# Altium integrated library Netscale72_Panelcontroller.IntLib: 56 symbols
Pins are listed as number, name and electrical type; pins without a type are passive.

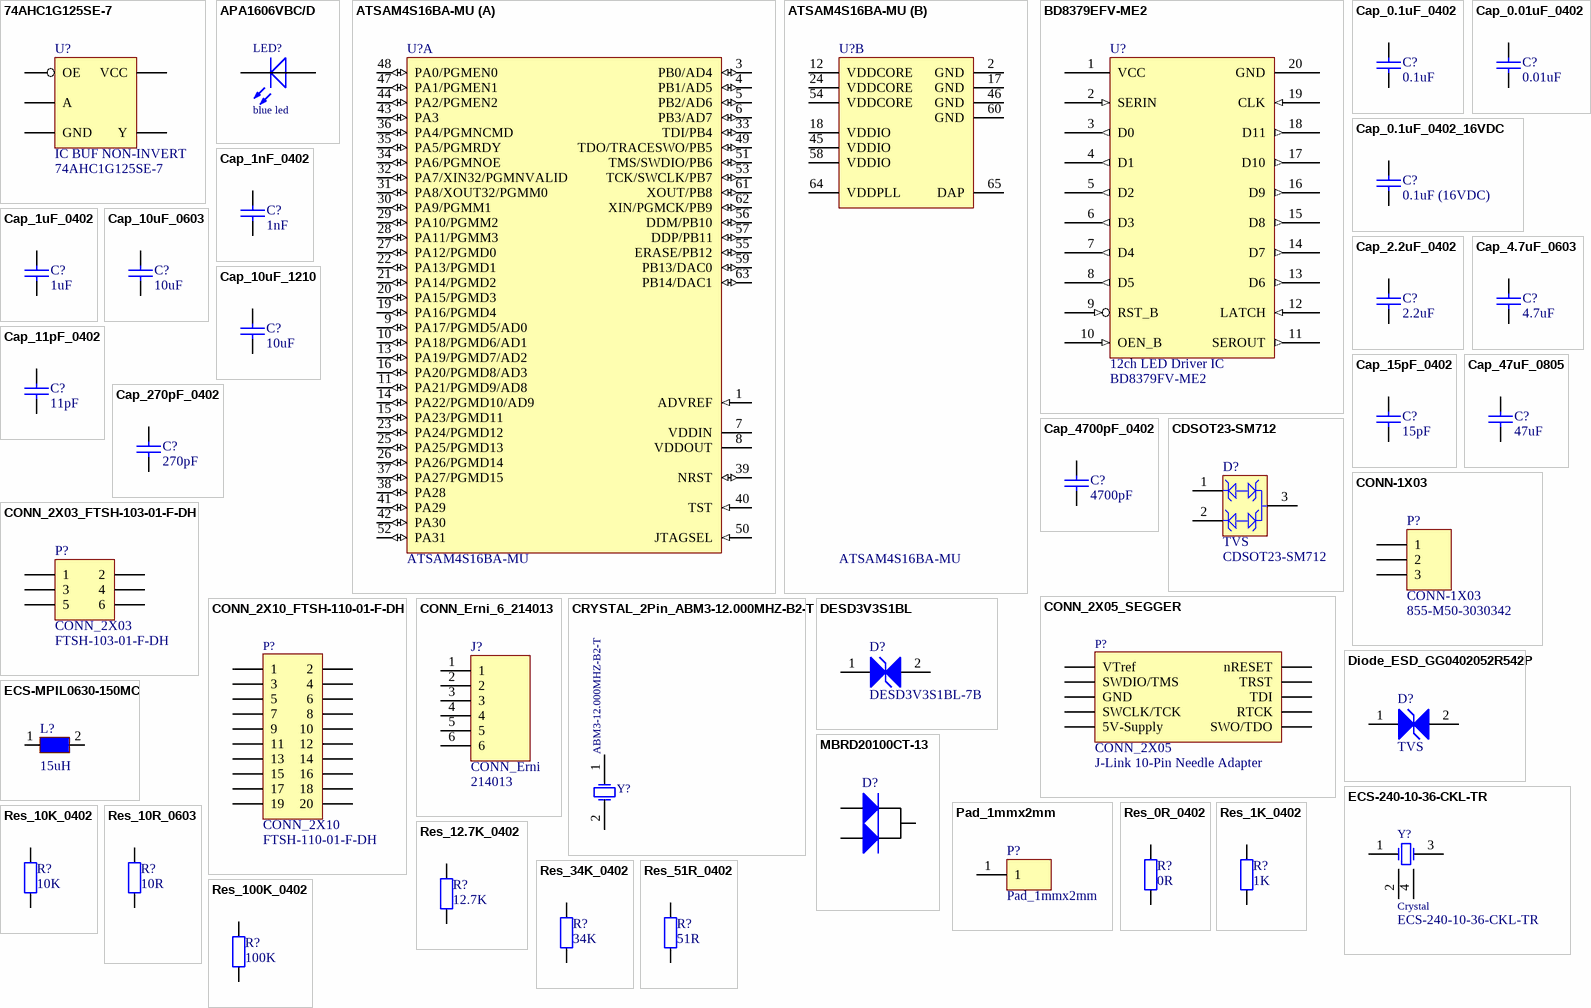
[diagram p0: symbols 74AHC1G125SE-7 to Res_100K_0402]

## 74AHC1G125SE-7
designator U?, comment IC BUF NON-INVERT  Manufacturer PartNr: 74AHC1G125SE-7
Buffer, Non-Inverting 1 Element 1 Bit per Element 3-State Output SOT-353; Manufacturer: Diodes Incorporated; Replaceable: no; Footprint/Package: SOT353; ComponentLink1Description: mouser; ComponentLink1URL: https://www.mouser.ch/ProductDetail/Samtec/BBL-103-G-E?qs=sGAEpiMZZMs%252bGHln7q6pm5ZHNJhTjtr3eyJKd0ZImQM%3d; Supplier 2: Mouser; Supplier 1: Digi-Key; Supplier 3: Farnell; Supplier Part Number 1: SAM1104-03-ND; Supplier Part Number 2: 200-SL103G12; Supplier Part Number 3: 2019491
footprint SOT353
pins: 1 OE, 2 A, 3 GND, 4 Y, 5 VCC

## APA1606VBC/D
designator LED?, comment blue led
blue, 1.6 x 0.6 mm Right Angle SMD Chip LED Lamp; Manufacturer: Kingbright; Manufacturer PartNr: APA1606VBC/D; Replaceable: yes; ComponentLink1Description: mouser; ComponentLink1URL: https://www.mouser.ch/ProductDetail/Kingbright/APA1606VBC-D?qs=%2fha2pyFaduhFkLoQLKawdk3E%252bl3FgSOr3Fif4NOc1lJmKkWDM5WlaQ%3d%3d; Footprint/Package: specific, see datasheet; Supplier 1: Digi-Key; Supplier Part Number 1: 754-2090-6-ND
footprint Kingbright_SMD_2_RWH
pins: 1 K, 2 A

## ATSAM4S16BA-MU
designator U?
AT91 ARM Cortex-M4 32-bit Microcontroller, 1MB Flash, 128KB SRAM, USB, 79 User I/Os, 64-Pin QFN, Industrial Grade (-40°C to 105°C), Pb-Free; Manufacturer: Atmel; Replaceable: no; DatasheetVersion: revA, Oct-2011; PackageVersion: revJ, Jul-2007; PackageReference: 64PS; PackageDescription: 64-Pin Quad Flat No-Lead (QFN) Sawn, 9 x 9 x 1.0 mm Body, 0.5 mm Pitch, Exposed Pad; Code_JEDEC: MO-220VMMD-3; ComponentLink1Description: Manufacturer URL; ComponentLink1URL: http://www.atmel.com/; ComponentLink2Description: SAM4S Series Datasheet; ComponentLink2URL: http://www.atmel.com/dyn/resources/prod_documents/11100.pdf; ComponentLink3Description: SAM4S Series Summary; ComponentLink3URL: http://www.atmel.com/dyn/resources/prod_documents/11100S.pdf; Manufacturer PartNr: ATSAM4S16BA-MU; Footprint/Package: QFN, 64-Leads, Body 9x9mm, Pitch 0.5mm, Thermal Pad 7.5x7.5mm, IPC Medium Density
footprint 64PS_N (QFN, 64-Leads, Body 9x9mm, Pitch 0.5mm, Thermal Pad 7.5x7.5mm, IPC Medium Density)
footprint 64PS_L (QFN, 64-Leads, Body 9x9mm, Pitch 0.5mm, Thermal Pad 7.5x7.5mm, IPC High Density)
footprint 64PS_M (QFN, 64-Leads, Body 9x9mm, Pitch 0.5mm, Thermal Pad 7.5x7.5mm, IPC Low Density)
part A pins: 1 ADVREF (in), 3 PB0/AD4 (io), 4 PB1/AD5 (io), 5 PB2/AD6 (io), 6 PB3/AD7 (io), 7 VDDIN (power), 8 VDDOUT (power), 9 PA17/PGMD5/AD0 (io), 10 PA18/PGMD6/AD1 (io), 11 PA21/PGMD9/AD8 (io), 13 PA19/PGMD7/AD2 (io), 14 PA22/PGMD10/AD9 (io), 15 PA23/PGMD11 (io), 16 PA20/PGMD8/AD3 (io), 19 PA16/PGMD4 (io), 20 PA15/PGMD3 (io), 21 PA14/PGMD2 (io), 22 PA13/PGMD1 (io), 23 PA24/PGMD12 (io), 25 PA25/PGMD13 (io), 26 PA26/PGMD14 (io), 27 PA12/PGMD0 (io), 28 PA11/PGMM3 (io), 29 PA10/PGMM2 (io), 30 PA9/PGMM1 (io), 31 PA8/XOUT32/PGMM0 (io), 32 PA7/XIN32/PGMNVALID (io), 33 TDI/PB4 (io), 34 PA6/PGMNOE (io), 35 PA5/PGMRDY (io), 36 PA4/PGMNCMD (io), 37 PA27/PGMD15 (io), 38 PA28 (io), 39 NRST (io), 40 TST (in), 41 PA29 (io), 42 PA30 (io), 43 PA3 (io), 44 PA2/PGMEN2 (io), 47 PA1/PGMEN1 (io), 48 PA0/PGMEN0 (io), 49 TDO/TRACESWO/PB5 (io), 50 JTAGSEL (in), 51 TMS/SWDIO/PB6 (io), 52 PA31 (io), 53 TCK/SWCLK/PB7 (io), 55 ERASE/PB12 (io), 56 DDM/PB10 (io), 57 DDP/PB11 (io), 59 PB13/DAC0 (io), 61 XOUT/PB8 (io), 62 XIN/PGMCK/PB9 (io), 63 PB14/DAC1 (io)
part B pins: 2 GND (power), 12 VDDCORE (power), 17 GND (power), 18 VDDIO (power), 24 VDDCORE (power), 45 VDDIO (power), 46 GND (power), 54 VDDCORE (power), 58 VDDIO (power), 60 GND (power), 64 VDDPLL (power), 65 DAP (power)

## BD8379EFV-ME2
designator U?, comment 12ch LED Driver IC  Manufacturer PartNr: BD8379FV-ME2
LED Lighting Drivers 12ch LED Drvr IC 3-5.5V; HTSSOP-B20; Manufacturer: ROHM Semiconductor; Replaceable: no; ComponentLink1Description: mouser; ComponentLink1URL: https://www.mouser.ch/ProductDetail/ROHM-Semiconductor/BD8379FV-ME2?qs=sGAEpiMZZMsE420DPIasPr3Oyx8hJUvEOZy8Z%252b2LZIkkhTSvSLIdLA%3d%3d; Footprint/Package: SSOP-B-20; Supplier 1: Mouser; Supplier 2: Farnell; Supplier 3: Digi-Key; Supplier Part Number 1: 755-BD8379FV-ME2; Supplier Part Number 2: 2888227; Supplier Part Number 3: BD8379FV-ME2DKR-ND
footprint BD8379EFV-ME2_HTSSOP-B20 (TSOP, 20-Leads, Body 6.40x4.40mm, Pitch 0.65mm, IPC Medium Density)
pins: 1 VCC (power), 2 SERIN (in), 3 D0 (out), 4 D1 (out), 5 D2 (out), 6 D3 (out), 7 D4 (out), 8 D5 (out), 9 RST_B (in), 10 OEN_B (in), 11 SEROUT (out), 12 LATCH (in), 13 D6 (out), 14 D7 (out), 15 D8 (out), 16 D9 (out), 17 D10 (out), 18 D11 (out), 19 CLK (in), 20 GND

## Cap_0.1uF_0402
designator C?, comment 0.1uF
SMD/SMT WCAP-CSGP 0.1uF 0402 20% 10V MLCC; Manufacturer: Wurth Electronics; Manufacturer PartNr: 885012105010; voltage: 10VDC; Dielectric Grade: X5R; Replaceable: yes; tolerance: 20%; value: 0.1uF; ComponentLink1Description: mouser; ComponentLink1URL: https://www.mouser.ch/ProductDetail/Wurth-Electronics/885012105010?qs=sGAEpiMZZMs0AnBnWHyRQEGbLOF2VP1ihL84oCjXnlO407YOHi%2fQbw%3d%3d; Footprint/Package: 0402; Supplier 1: Mouser; Supplier 2: Farnell; Supplier 3: Digi-Key; Supplier Part Number 1: 710-885012105010; Supplier Part Number 2: 2533928; Supplier Part Number 3: 732-7487-1-ND
footprint Ceramic Capacitor 0402 EIA
pins: 1, 2

## Cap_0.01uF_0402
designator C?, comment 0.01uF
SMD/SMT WCAP-CSGP 0.01uF 0402 10% 10V MLCC; Manufacturer: Wurth Electronics; Manufacturer PartNr: 885012205012; voltage: 10VDC; Dielectric Grade: X7R; Replaceable: yes; value: 0.01uF; tolerance: 10%; ComponentLink1Description: mouser; ComponentLink1URL: https://www.mouser.ch/ProductDetail/Wurth-Electronics/885012205012?qs=%2fha2pyFadugw7Bx5e6Fm8E9Tl5BwARhs%2fZgZBwU9Lt9i4SI58FWkO%2fGWTrc%2fVjVaOTikVrFA6u%2fDYyVQwAJERsgVVqUKkSXa; Footprint/Package: 0402; Supplier 1: Mouser; Supplier 2: Farnell; Supplier 3: Digi-Key; Supplier Part Number 1: 710-885012205012; Supplier Part Number 2: 2533974; Supplier Part Number 3: 732-7507-1-ND
footprint Ceramic Capacitor 0402 EIA
pins: 1, 2

## Cap_0.1uF_0402_16VDC
designator C?, comment 0.1uF (16VDC)
SMD/SMT 16volts .1uF 20% X7R; Manufacturer: KEMET; Manufacturer PartNr: C0402C104M4RACAUTO; Replaceable: yes; value: 0.1uF (16VDC); tolerance: 20%; voltage: 16VDC; ComponentLink1Description: mouser; ComponentLink1URL: https://www.mouser.ch/ProductDetail/KEMET/C0402C104M4RACAUTO?qs=sGAEpiMZZMs0AnBnWHyRQB295tntAovf0Dzw3tVX6zRfKTwHFThmZw%3d%3d; Dielectric Grade: X7R; Footprint/Package: 0402; Supplier 1: Mouser; Supplier 2: Digi-Key; Supplier 3: Farnell; Supplier Part Number 1: 80-C0402C104M4RAUTO; Supplier Part Number 2: 399-13707-6-ND; Supplier Part Number 3: 2773075
footprint Ceramic Capacitor 0402 EIA
pins: 1, 2

## Cap_1nF_0402
designator C?, comment 1nF
1000pF ±20% 50V Ceramic Capacitor X5R 0402 (1005 Metric); Manufacturer: TDK Corporation; Manufacturer PartNr: C1005X5R1H102M050BA; Replaceable: yes; value: 1nF; tolerance: ±20%; voltage: 50V; Dielectric Grade: X5R; Footprint/Package: 0402; ComponentLink1Description: digikey; ComponentLink1URL: https://www.digikey.com/product-detail/en/tdk-corporation/C1005X5R1H102M050BA/445-13843-6-ND/3959939
footprint Ceramic Capacitor 0402 EIA
pins: 1, 2

## Cap_1uF_0402
designator C?, comment 1uF
SMD/SMT 0402 1uF 10volts X7S 10%; Manufacturer: Murata; Manufacturer PartNr: GCM155C71A105KE38D; voltage: 10VDC; Replaceable: yes; value: 1uF; tolerance: 10%; ComponentLink1Description: mouser; ComponentLink1URL: https://www.mouser.ch/ProductDetail/Murata-Electronics/GCM155C71A105KE38D?qs=sGAEpiMZZMsh%252b1woXyUXj0FEAttKcN54ouz5zO04smg%3d; Dielectric Grade: X7S; Footprint/Package: 0402; Supplier 1: Mouser; Supplier 2: Digi-Key; Supplier Part Number 1: 81-GCM155C71A105KE8D; Supplier Part Number 2: 490-13409-6-ND
footprint Ceramic Capacitor 0402 EIA
pins: 1, 2

## Cap_2.2uF_0402
designator C?, comment 2.2uF
2.2µF ±20% 25V Ceramic Capacitor X5R 0402 (1005 Metric); Manufacturer: Murata; Manufacturer PartNr: GRM155R61E225ME15D; Replaceable: yes; value: 2.2uF; tolerance: ±20%; voltage: 25V; Dielectric Grade: X5R; Footprint/Package: 0402; ComponentLink1Description: digikey; ComponentLink1URL: https://www.digikey.com/product-detail/en/murata-electronics-north-america/GRM155R61E225ME15D/490-10457-2-ND/5027542
footprint Ceramic Capacitor 0402 EIA
pins: 1, 2

## Cap_4.7uF_0603
designator C?, comment 4.7uF
SMD/SMT 0603 4.7uF 10volts; Manufracturer: Murata; Manufacturer PartNr: GRM188R61A475KE15D; tolerance: 20%; voltage: 10VDC; Dielectric Grade: X5R; Replaceable: yes; value: 4.7uF; Footprint/Package: 0603
footprint Ceramic Capacitor 0603 EIA
pins: 1, 2

## Cap_10uF_0603
designator C?, comment 10uF
SMD/SMT 0603 10uF 10volts; Manufacturer: Murata; Manufacturer PartNr: GRM188D71A106MA73D; tolerance: 20%; voltage: 10VDC; Replaceable: yes; Dielectric Grade: X5R; value: 10uF; Footprint/Package: 0603
footprint Ceramic Capacitor 0603 EIA
pins: 1, 2

## Cap_10uF_1210
designator C?, comment 10uF
SMD/SMT 100Vdc 10uF 10% 1210/2502; Manufacturer: Murata; Manufacturer PartNr: GRM32EC72A106KE05L; Dielectric Grade: X7S; Replaceable: yes; value: 10uF; tolerance: 10%; voltage: 100VDC; ComponentLink1Description: mouser; ComponentLink1URL: https://www.mouser.ch/ProductDetail/Murata-Electronics/GRM32EC72A106KE05L?qs=sGAEpiMZZMs0AnBnWHyRQN7%2fAA2D2lPPRgsNRWcxCxSMn45aJ02Wig%3d%3d; Footprint/Package: 1210; Supplier 1: Mouser; Supplier 2: Digi-Key; Supplier Part Number 1: 81-GRM32EC72A106KE05; Supplier Part Number 2: 490-16266-6-ND
footprint Ceramic Capacitor 1210 EIA
pins: 1, 2

## Cap_11pF_0402
designator C?, comment 11pF
SMD/SMT 0402 11pF 50volts C0G 5%; Manufacturer: Murata; Manufacturer PartNr: GRM1555C1H110JA01D; voltage: 50VDC; Dielectric Grade: C0G (NP0); Replaceable: yes; value: 11pF; tolerance: 5%; ComponentLink1Description: mouser; ComponentLink1URL: https://www.mouser.ch/ProductDetail/Murata-Electronics/GRM1555C1H110JA01D?qs=%2fha2pyFadug34NHqLs7eMMmZ4IY%2fB%2fBwtGmZmE%252bqlNJIuNiWKDU4cio3ILTIjZ7Z; Footprint/Package: 0402; Supplier 1: Mouser; Supplier 2: Digi-Key; Supplier 3: Farnell; Supplier Part Number 1: 81-GRM1555C1H110JA1D; Supplier Part Number 2: 490-5923-6-ND; Supplier Part Number 3: 2218837
footprint Ceramic Capacitor 0402 EIA
pins: 1, 2

## Cap_15pF_0402
designator C?, comment 15pF
Multilayer Ceramic Capacitors MLCC; Manufacturer: Muarata; Manufacturer PartNr: GJM1555C1H150FB01D; tolerance: ±1%; voltage: 50V; Replaceable: no; Dielectric Grade: NP0; value: 15pF; Footprint/Package: 0402; ComponentLink1Description: digikey; ComponentLink1URL: https://www.digikey.com/product-detail/en/murata-electronics-north-america/GJM1555C1H150FB01D/490-11191-6-ND/5333833
footprint Ceramic Capacitor 0402 EIA
pins: 1, 2

## Cap_47uF_0805
designator C?, comment 47uF
SMD/SMT 0805 47uF 10volts; Manufacturer: Murata; Manufacturer PartNr: GRM21BR61A476ME15K; tolerance: 20%; voltage: 10VDC; Dielectric Grade: X5R; Replaceable: yes; value: 47uF; ComponentLink1Description: mouser; ComponentLink1URL: https://www.mouser.ch/ProductDetail/Murata-Electronics/GRM21BR61A476ME15K?qs=sGAEpiMZZMs0AnBnWHyRQFv7x1xn%252bYFd%2fKEbtsqpw9LjjzI%2fE2JjPg%3d%3d; Footprint/Package: 0805; Supplier 1: Mouser; Supplier 2: Digi-Key; Supplier Part Number 1: 81-GRM21BR61A476ME5K; Supplier Part Number 2: GRM21BR61A476ME15K-ND
footprint Ceramic Capacitor 0805 EIA
pins: 1, 2

## Cap_270pF_0402
designator C?, comment 270pF
SMD/SMT 0402 270pF 10volts X7R 20%; Manufacturer: Vishay / Vitramon; Manufacturer PartNr: VJ0402Y271MXQPW1BC; voltage: 10VDC; Replaceable: yes; value: 270pF; tolerance: 20%; ComponentLink1Description: mouser; ComponentLink1URL: https://www.mouser.ch/ProductDetail/Vishay-Vitramon/VJ0402Y271MXQPW1BC?qs=sGAEpiMZZMs0AnBnWHyRQGuekufMepD5hIxY33Q3750%3d; Dielectric Grade: X7R; Footprint/Package: 0402; Supplier 1: Mouser; Supplier 2: Digi-Key; Supplier Part Number 1: 77-VJ0402Y271MXQPBC; Supplier Part Number 2: VJ0402Y271MXQPW1BC-ND
footprint Ceramic Capacitor 0402 EIA
pins: 1, 2

## Cap_4700pF_0402
designator C?, comment 4700pF
SMD/SMT 0.0047uF 10volts 10%; Manufacturer: Murata; Manufacturer PartNr: GRM155R61A472KA01D; voltage: 10VDC; Dielectric Grade: X5R; Replaceable: yes; value: 4700pF; tolerance: 10%; ComponentLink1Description: mouser; ComponentLink1URL: https://www.mouser.ch/ProductDetail/Murata-Electronics/GRM155R61A472KA01D?qs=sGAEpiMZZMs0AnBnWHyRQJuLogdu9bcTuSYPL0o17LI%3d; Footprint/Package: 0402; Supplier 1: Mouser; Supplier 2: Digi-Key; Supplier Part Number 1: 81-GRM155R61A472KA1D; Supplier Part Number 2: 490-8254-6-ND
footprint Ceramic Capacitor 0402 EIA
pins: 1, 2

## CDSOT23-SM712
designator D?, comment TVS  Manufacturer PartNr: CDSOT23-SM712
ESD Suppressors / TVS Diodes SOT-23 7V400W Low Capacitance; Manufacturer: Bourns; Replaceable: no; ComponentLink1Description: mouser; ComponentLink1URL: https://www.mouser.ch/ProductDetail/Bourns/CDSOT23-SM712?qs=sGAEpiMZZMviKXukECHWvZSlzh2FqLKC; Footprint/Package: SOT-23; Supplier 1: Mouser; Supplier 2: Digi-Key; Supplier 3: Farnell; Supplier Part Number 1: 652-CDSOT23-SM712; Supplier Part Number 2: CDSOT23-SM712DKR-ND; Supplier Part Number 3: 1824869
footprint BOUR-SOT23-3_V (SOT23, 3-Leads, Body 2.9x1.3mm, Pitch 0.95mm)
pins: 1, 2, 3

## CONN-1X03
designator P?  Supplier Part Number 1: 855-M50-3030342
Headers & Wire Housings 3 WAY SIL VERT PC TAIL SKT; Manufacturer: Archer; Manufacturer PartNr: M50-3030342; Replaceable: no; System: Connector; Footprint/Package: 1.27 mm; ComponentLink1Description: mouser; ComponentLink1URL: https://www.mouser.ch/ProductDetail/Samtec/BBL-103-G-E?qs=sGAEpiMZZMs%252bGHln7q6pm5ZHNJhTjtr3eyJKd0ZImQM%3d; Supplier 1: Mouser
footprint CONN_1X03 (Connector; Header; 3 Position)
pins: 1, 2, 3

## CONN_2X03_FTSH-103-01-F-DH
designator P?, comment CONN_2X03  Manufacturer PartNr: FTSH-103-01-F-DH
6Pin, 2Rows, MICRO LOW-PROFILE TERMINAL STRIPS; Manufacturer: Samtec; Replaceable: no; Footprint/Package: 1.27 mm
footprint FTSH-103-01-F-DH
pins: 1, 2, 3, 4, 5, 6

## CONN_2X05_SEGGER
designator P?, comment CONN_2X05  (no BOM)
J-Link 10-Pin Needle Adapter; Manufacturer: Samtec; Replaceable: no; Footprint/Package: 1.27 mm; Manufacturer PartNr: J-Link 10-Pin Needle Adapter
footprint CONN_2X05_SEGGER
pins: 1 VTref, 2 SWDIO/TMS, 3 GND, 4 SWCLK/TCK, 5 5V-Supply, 6 SWO/TDO, 7 RTCK, 8 TDI, 9 TRST, 10 nRESET

## CONN_2X10_FTSH-110-01-F-DH
designator P?, comment CONN_2X10  Manufacturer PartNr: FTSH-110-01-F-DH
20Pin, 2Rows, side/horizontally, MICRO LOW-PROFILE TERMINAL STRIPS; Manufacturer: Samtec; Replaceable: no; ComponentLink1Description: mouser; ComponentLink1URL: https://www.mouser.ch/ProductDetail/Samtec/FTSH-110-02-F-DH?qs=sGAEpiMZZMs%252bGHln7q6pm8Vn94ktop%2fJX5D4YaS%252bHqWex9Ov5NBeXw%3d%3d; Footprint/Package: 1.27 mm; Supplier 1: Digi-Key; Supplier 2: Farnell; Supplier 3: Mouser; Supplier Part Number 1: SAM11236-ND; Supplier Part Number 2: 2856415; Supplier Part Number 3: 200-FTS11002FDV
footprint FTSH-110-01-F-DH
pins: 1, 2, 3, 4, 5, 6, 7, 8, 9, 10, 11, 12, 13, 14, 15, 16, 17, 18, 19, 20

## CONN_Erni_6_214013
designator J?, comment CONN_Erni  Manufacturer PartNr: 214013
Headers & Wire Housings 6P 1.27MM SNGL ROW R/A MALE BLK; Manufacturer: ERNI; Replaceable: no; ComponentLink1Description: mouser; ComponentLink1URL: https://www.mouser.ch/ProductDetail/ERNI/214013?qs=sGAEpiMZZMvMXbh32ZmHAMhEPQG9jaj7Ou3J%2fuOb4IQ%3d; Footprint/Package: 1.27mm; Supplier 1: Mouser; Supplier Part Number 1: 305-214013
footprint ERNI_214013_6_R
footprint ERNI_214013 Randmontage_6_R
pins: 1, 2, 3, 4, 5, 6

## CRYSTAL_2Pin_ABM3-12.000MHZ-B2-T
designator Y?, comment ABM3-12.000MHZ-B2-T
12MHz ±20ppm Crystal 18pF 60 Ohms 2-SMD, No Lead; Manufacturer: Abracon LLC; Replaceable: no; Manufacturer PartNr: ABM3-12.000MHZ-B2-T; ShortDescription: 12MHz; Footprint/Package: 2-SMD; ComponentLink1Description: digikey; ComponentLink1URL: https://www.digikey.com/product-detail/en/abracon-llc/ABM3-12.000MHZ-B2-T/535-9100-2-ND/675295
footprint ABM3-12.000MHZ-B2-T
pins: 1 OSC1, 2 OSC2

## DESD3V3S1BL
designator D?, comment Manufacturer PartNr: DESD3V3S1BL-7B  (hidden comment: TVS)
ESD Suppressors / TVS Diodes Low Cap Bi TVS 10pF 3.3V 3.8Vbr 25kV; Manufacturer: Diodes Incorporated; Replaceable: no; ComponentLink1Description: mouser; ComponentLink1URL: https://www.mouser.ch/ProductDetail/Diodes-Incorporated/DESD3V3S1BL-7B?qs=%2fha2pyFaduhA707awRoRgtNXj1BWecNQPXz8CtVYm9O48rqwfwJI0g%3d%3d; Footprint/Package: DFN1006-2; Supplier 1: Mouser; Supplier 2: Digi-Key; Supplier Part Number 1: 621-DESD3V3S1BL-7B; Supplier Part Number 2: DESD3V3S1BL-7BDIDKR-ND
footprint DFN1006-2 (DFN, 2-Leads, Body 0.57x1.00mm, Pitch 0.65mm, IPC Medium Density)
pins: 1 A, 2 K

## Diode_ESD_GG0402052R542P
designator D?, comment TVS
ESD-Entstörer/TVS-Dioden SMP Diode 0402, 5vdc 2.5 pf,<12v clamp@1a; Manufacturer: AVX; Manufacturer PartNr: GG0402052R542P; Replaceable: no; Footprint/Package: 0402; ComponentLink1Description: mouser; ComponentLink1URL: https://www.mouser.ch/ProductDetail/AVX/GG0402052R542P?qs=sGAEpiMZZMvxHShE6Whpu1x5J54b1MLge%252BpTILpWUo8%3D
footprint Resistor 0402 EIA
pins: 1 A, 2 K

## ECS-240-10-36-CKL-TR
designator Y?, comment Crystal  Manufacturer Part Number: ECS-240-10-36-CKL-TR
Quarze 24MHz 10pF 10ppm -10C +70C
footprint ECS_ECX-2236_4_R
pins: 1 OSC1, 2 OSC2, 3 OSC2, 4 OSC3

## ECS-MPIL0630-150MC
designator L?, comment 15uH
Fixed Inductors 15uH +/-20% 3A Iron Core Shielded, R=95 mOhms, Height = 3 mm.; Manufacturer: ECS; Manufacturer PartNr: ECS-MPIL0630-150MC; Replaceable: yes; ComponentLink1Description: mouser; ComponentLink1URL: https://www.mouser.ch/ProductDetail/ECS/ECS-MPIL0630-150MC?qs=sGAEpiMZZMsg%252by3WlYCkUy0Se8nYOmwuVn58KWjVF3E%3d; value: 15uH; Footprint/Package: specific, see datasheet; Supplier 1: Mouser; Supplier Part Number 1: 520-MPIL0630-150MC; Current: 3A
footprint ECS-MPIL0630-150MC (Fixed Inductors 15uH +/-20% 5A Iron Core Shielded)
pins: 1, 2

## MBRD20100CT-13
designator D?, comment Schottky Diode  (value not drawn)
SCHOTTKY BARRIER RECTIFIERS / 3.0 AMPERES, 20 V; Manufacturer: Diodes Incorporated; Manufacturer PartNr: MBRD20100CT-13; Replaceable: no; ComponentLink1Description: mouser; ComponentLink1URL: https://www.mouser.ch/ProductDetail/ON-Semiconductor/MBRD320G?qs=sGAEpiMZZMutXGli8Ay4kLbK7y3VH6Gt26Y1IWCqWOY%3D; Footprint/Package: DPAK
footprint TO-252-3_MBRD20100CT
pins: 1, 2, 3

## Pad_1mmx2mm
designator P?  (no BOM)
Manufacturer: Pad_1mmx2mm; Manufacturer PartNr: Pad_1mmx2mm
footprint Pad_1mmx2mm (Footprint not found)
pins: 1

## Res_0R_0402
designator R?, comment 0R
0 Ohms Resistor 0402; Manufacturer: Panasonic Electronic Components; Manufacturer PartNr: ERJ-2GE0R00X; power: 100mW; Replaceable: yes; value: 0R; tolerance: -; Footprint/Package: 0402
footprint Resistor 0402 EIA
pins: 1, 2

## Res_1K_0402
designator R?, comment 1K
1 kOhm Resistor 0402; Manufacturer: TE Connectivity / Holsworthy; Manufacturer PartNr: CRGCQ0402F1K0; power: 63mW; Replaceable: yes; value: 1K; tolerance: -; Footprint/Package: 0402
footprint Resistor 0402 EIA
pins: 1, 2

## Res_10K_0402
designator R?, comment 10K
SMD 10K ohm 1% 50V General Purpose; Manufacturer: Yageo; Manufacturer PartNr: RC0402FR-1010KL; power: 63mW; Replaceable: yes; value: 10K; tolerance: 1%; ComponentLink1Description: mouser; ComponentLink1URL: https://www.mouser.ch/ProductDetail/Yageo/RC0402FR-1010KL?qs=sGAEpiMZZMtlubZbdhIBIEgN9MQql2m6Sb2LnYlCICU%3d; Footprint/Package: 0402; Supplier 1: Mouser; Supplier Part Number 1: 603-RC0402FR-1010KL
footprint Resistor 0402 EIA
pins: 1, 2

## Res_10R_0603
designator R?, comment 10R
SMD 0603 10ohms 1%; Manufacturer: Vishay; Manufacturer PartNr: CRCW060310R0FKEAHP; power: 250mW; Replaceable: yes; value: 10R; tolerance: 1%; Footprint/Package: 0603
footprint Resistor 0603 EIA
pins: 1, 2

## Res_12.7K_0402
designator R?, comment 12.7K
SMD 0402 1% 12.7Kohm; Manufacturer: Panasonic; Manufacturer PartNr: ERJ-U02F1272X; power: 100mW; Replaceable: yes; value: 12.7K; tolerance: 1%; ComponentLink1Description: mouser; ComponentLink1URL: https://www.mouser.ch/ProductDetail/Panasonic/ERJ-U02F1272X?qs=%2fha2pyFaduhgKgPBJ740pAaHj6cp9pylmg%252bQEADUfgyeSrh3sAf%2fUfkIS9lAH%252bGtn6lc%2fnTP02L%252baHn1ibPfBw%3d%3d; Footprint/Package: 0402; Supplier 1: Mouser; Supplier Part Number 1: 667-ERJ-U02F1272X
footprint Resistor 0402 EIA
pins: 1, 2

## Res_34K_0402
designator R?, comment 34K
SMD 0402 34Kohms 1%; Manufacturer: Panasonic; Manufacturer PartNr: ERJ-S02F3402X; power: 100mW; Replaceable: yes; value: 34K; tolerance: 1%; ComponentLink1Description: mouser; ComponentLink1URL: https://www.mouser.ch/ProductDetail/Panasonic/ERJ-S02F3402X?qs=sGAEpiMZZMtlubZbdhIBINuoixIUl6fxKD%252btaKOXBLI%3d; Footprint/Package: 0402; Supplier 1: Digi-Key; Supplier 2: Mouser; Supplier Part Number 1: ERJ-S02F3402X-ND; Supplier Part Number 2: 667-ERJ-S02F3402X
footprint Resistor 0402 EIA
pins: 1, 2

## Res_51R_0402
designator R?, comment 51R
Resistor; Manufacturer: Yageo; Manufacturer PartNr: RC0402JR-0751RL; tolerance: 5%; power: 62.5mW; Replaceable: yes; value: 51R; Footprint/Package: 0402; ComponentLink1Description: mouser; ComponentLink1URL: https://www.mouser.ch/ProductDetail/Yageo/RC0402JR-0751RL?qs=sGAEpiMZZMtG0KNrPCHnjTtiZEI2zSDg2UFCMmEjZXQ%3d
footprint Resistor 0402 EIA
pins: 1, 2

## Res_100K_0402
designator R?, comment 100K
100 kOhm Resistor 0402; Manufacturer: Vishay; Manufacturer PartNr: CRCW0402100KJNEDC; power: 63mW; Replaceable: yes; value: 100K; tolerance: -; Footprint/Package: 0402
footprint Resistor 0402 EIA
pins: 1, 2

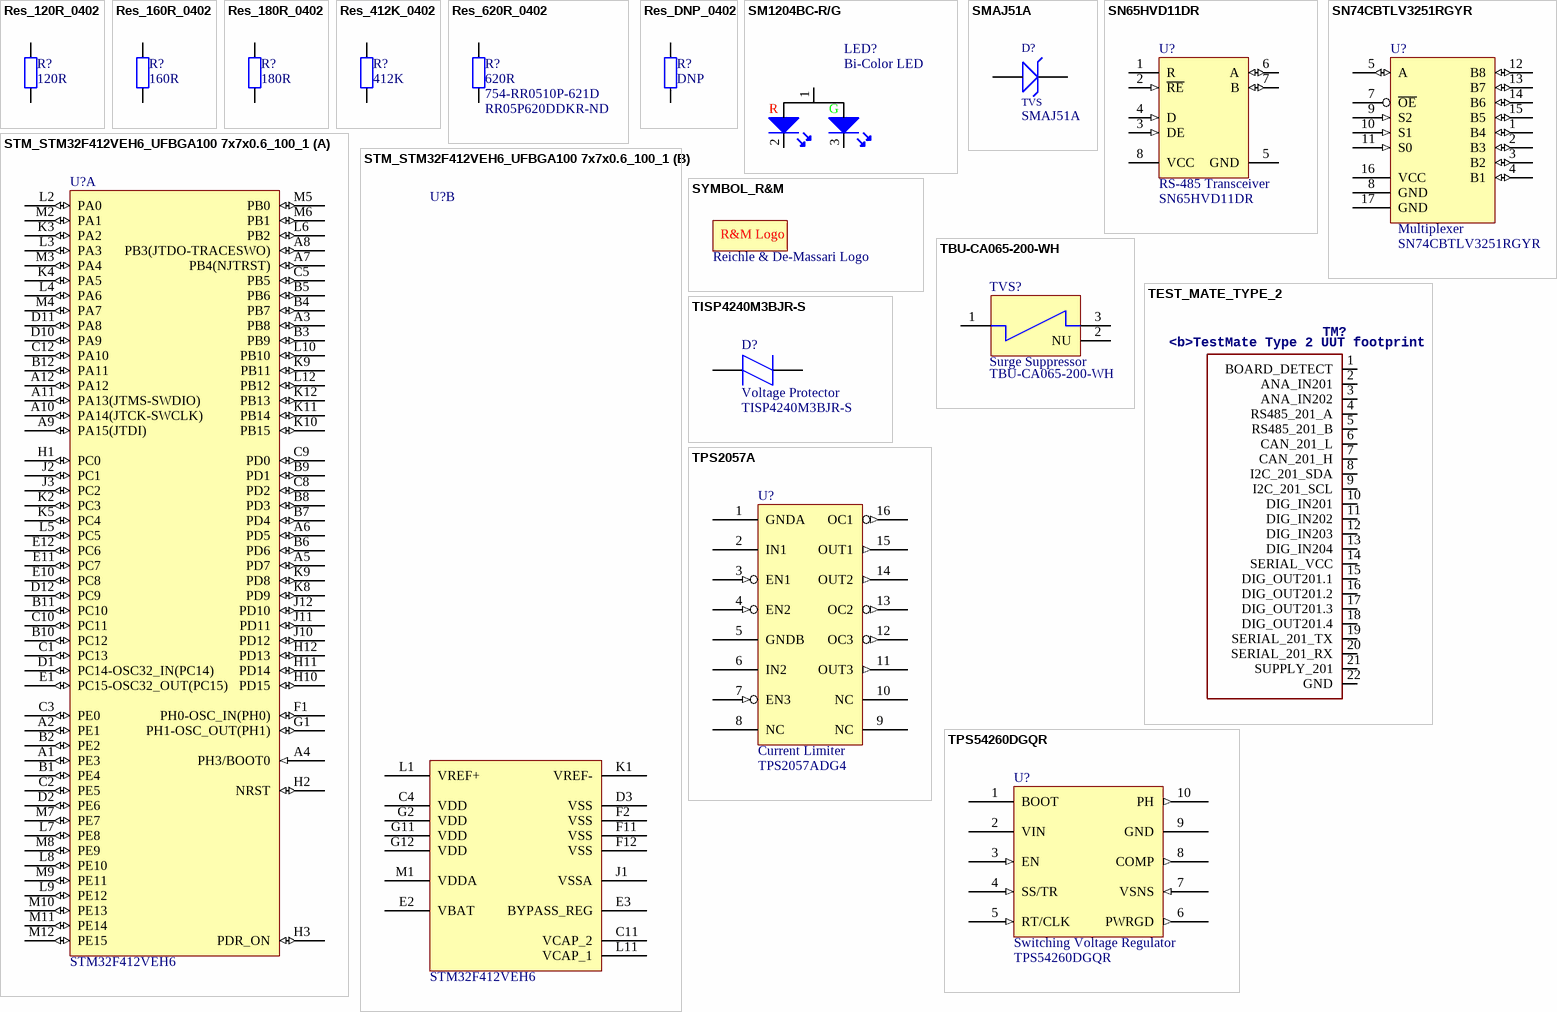
[diagram p1: symbols Res_120R_0402 to TPS54260DGQR]

## Res_120R_0402
designator R?, comment 120R
SMD 0402 120 OHM 1%; Manufacturer: Yageo; Manufacturer PartNr: RC0402FR-07120RL; power: 62.5mW; Replaceable: yes; value: 120R; tolerance: 1%; ComponentLink1Description: mouser; ComponentLink1URL: https://www.mouser.ch/ProductDetail/Yageo/RC0402FR-07120RL?qs=sGAEpiMZZMtG0KNrPCHnjZp3fE5AS1HJJJHwzxSjurg%3d; Footprint/Package: 0402; Supplier 1: Digi-Key; Supplier 2: Mouser; Supplier Part Number 1: 311-120LRDKR-ND; Supplier Part Number 2: 603-RC0402FR-07120RL; Supplier 3: Farnell; Supplier Part Number 3: 9239120
footprint Resistor 0402 EIA
pins: 1, 2

## Res_160R_0402
designator R?, comment 160R
SMD 0402 160 OHM 1%; Manufacturer: Yageo; Manufacturer PartNr: RC0402FR-07160RL; power: 62.5mW; Replaceable: yes; value: 160R; tolerance: 1%; ComponentLink1Description: digikey; ComponentLink1URL: https://www.digikey.com/product-detail/en/yageo/RC0402FR-07160RL/311-160LRDKR-ND/732440; Footprint/Package: 0402; Supplier 1: Mouser; Supplier Part Number 1: 603-RC0402FR-07160RL
footprint Resistor 0402 EIA
pins: 1, 2

## Res_180R_0402
designator R?, comment 180R
SMD 0402 180 OHM 1%; Manufacturer PartNr: RN73H1ETTP1800B50; power: 62.5mW; Replaceable: yes; value: 180R; tolerance: 1%; Footprint/Package: 0402
footprint Resistor 0402 EIA
pins: 1, 2

## Res_412K_0402
designator R?, comment 412K
SMD 0402 412K OHM 1%; Manufacturer: Yageo; Manufacturer PartNr: RC0402FR-07412KL; power: 62.5mW; Replaceable: yes; value: 412K; tolerance: 1%; ComponentLink1Description: mouser; ComponentLink1URL: https://www.mouser.ch/ProductDetail/Yageo/RC0402FR-07412KL?qs=sGAEpiMZZMu61qfTUdNhG6gKAQVNBKOozNOFQJr2tME%3d; Footprint/Package: 0402; Supplier 1: Mouser
footprint Resistor 0402 EIA
pins: 1, 2

## Res_620R_0402
designator R?, comment 620R  Supplier Part Number 1: 754-RR0510P-621D  Supplier Part Number 2: RR05P620DDKR-ND
SMD 0402 620ohm 0.5%; Manufacturer: Susumu; Manufacturer PartNr: RR0510P-621-D; power: 62.5mW; Replaceable: yes; value: 620R; tolerance: 0.5%; ComponentLink1Description: mouser; ComponentLink1URL: https://www.mouser.ch/ProductDetail/Susumu/RR0510P-621-D?qs=sGAEpiMZZMu61qfTUdNhG%2fDhcyQpRg8MIBVoO7KVzPo%3d; Footprint/Package: 0402; Supplier 1: Mouser; Supplier 2: Digi-Key
footprint Resistor 0402 EIA
pins: 1, 2

## Res_DNP_0402
designator R?, comment DNP
Resistor: do not populate; Replaceable: no; value: DNP; tolerance: *; power: *; Manufacturer: do not populate; Manufacturer PartNr: do not populate; Footprint/Package: 0402
footprint Resistor 0402 EIA
pins: 1, 2

## SM1204BC-R/G
designator LED?, comment Bi-Color LED
surface mount led red/green; Manufacturer: Bivar; Manufacturer PartNr: SM1204BC-R/G; Replaceable: no; ComponentLink1Description: mouser; ComponentLink1URL: https://www.mouser.ch/ProductDetail/Bivar/SM1204BC-R-G?qs=%2fha2pyFadui4qQS2vEE7ZgAQ86kCJBvBr%2f7ddAy39LDK6FB8gQMnbg%3d%3d; Footprint/Package: specific, see datasheet; Supplier 1: Mouser; Supplier Part Number 1: 749-SM1204BC-R/G; Supplier 2: Digi-Key; Supplier Part Number 2: SM1204BC-R/G-ND
footprint SM1204BC-R/G_1204
pins: 1, 2, 3
text: R; G

## SMAJ51A
designator D?, comment TVS  Manufacturer PartNr: SMAJ51A
ESD Suppressors / TVS Diodes 51volts 5uA 4.9 Amps Uni-Dir; Manufacturer: Bourns; Replaceable: no; ComponentLink1Description: mouser; ComponentLink1URL: https://www.mouser.ch/ProductDetail/Bourns/SMAJ51A?qs=sGAEpiMZZMuGq%2fv7cZsUq75de%2faGaCT9; Footprint/Package: SMA; Supplier 1: Farnell; Supplier 2: Digi-Key; Supplier 3: Mouser; Supplier Part Number 1: 2836240; Supplier Part Number 2: SMAJ51ABDKR-ND; Supplier Part Number 3: 652-SMAJ51A
footprint Bourns_DO-214AC (SMA) small_2_R
pins: 1 K, 2 A

## SN65HVD11DR
designator U?, comment RS-485 Transceiver  Manufacturer PartNr: SN65HVD11DR
RS-485 Interface IC 3.3V Differential Transceivers; Manufacturer: Texas Instruments; Replaceable: no; ComponentLink1Description: mouser; ComponentLink1URL: https://www.mouser.ch/ProductDetail/Texas-Instruments/SN65HVD11DR?qs=sGAEpiMZZMtk5jbcouIbS2cUqarwnJ3LOIItPoxnG4E%3d; Footprint/Package: SOIC-8; Supplier 1: Digi-Key; Supplier 2: Farnell; Supplier 3: Mouser; Supplier Part Number 1: 296-31717-6-ND; Supplier Part Number 2: 2436743; Supplier Part Number 3: 595-SN65HVD11DR
footprint TI_D (R-PDSO-G8)_8_R
pins: 1 R (hiz), 2 ~{RE} (in), 3 DE (in), 4 D (in), 5 GND (power), 6 A (io), 7 B (io), 8 VCC (power)

## SN74CBTLV3251RGYR
designator U?, comment Multiplexer  Manufacturer PartNr: SN74CBTLV3251RGYR
Multiplexer Switch ICs Sngl-Pole Dbl-Throw Analog Switch; Manufacturer: Texas Instruments; Replaceable: no; ComponentLink1Description: mouser; ComponentLink1URL: https://www.mouser.ch/ProductDetail/Texas-Instruments/SN74CBTLV3251RGYR?qs=%2fha2pyFaduj0jkaZeFbDsRaCQjjoxFIhZ%2frFxSESrMpT%252bYmeDnewIw%3d%3d; Footprint/Package: VQFN-16; Supplier 1: Mouser; Supplier 2: Digi-Key; Supplier Part Number 1: 595-SN74CBTLV3251RGY; Supplier Part Number 2: 296-15105-6-ND
footprint TexasInstruments_16-VFQFN_16_R
footprint TexasInstruments_16-VFQFN_16_R
pins: 1 B4 (io), 2 B3 (io), 3 B2 (io), 4 B1 (io), 5 A (io), 7 ~{OE}, 8 GND, 9 S2 (in), 10 S1 (in), 11 S0 (in), 12 B8 (io), 13 B7 (io), 14 B6 (io), 15 B5 (io), 16 VCC (power), 17 GND

## STM_STM32F412VEH6_UFBGA100 7x7x0.6_100_1
designator U?, comment STM32F412VEH6
STM32 Dynamic Efficiency MCU with BAM, High-performance and DSP with FPU, ARM Cortex-M4 MCU with 512 Kbytes Flash, 100 MHz CPU, Art Accelerator, DFSDM; Manufacturer: STM; Manufacturer PartNr: STM32F412VEH6; ShortDescription: STM32F412VEH6
footprint STM_UFBGA100 7x7x0.6_100_R
part A pins: A1 PE3 (io) "PE3/TRACED0,TIM3_CH1,TSC_G7_IO2,LCD_SEG39,FMC_A19,SAI1_SD_B,EVENTOUT", A2 PE1 (io) "PE1/LCD_SEG37,FMC_NBL1,TIM17_CH1,EVENTOUT", A3 PB8 (io) "PB8/TIM4_CH3,I2C1_SCL,DFSDM_DATIN6,CAN1_RX,LCD_SEG16,SDMMC1_D4,SAI1_MCLK_A,TIM16_CH1,EVENTOUT", A4 PH3/BOOT0 (in) "BOOT0", A5 PD7 (io) "PD7/DFSDM_CKIN1,USART2_CK,FMC_NE1,EVENTOUT", A6 PD5 (io) "PD5/USART2_TX,FMC_NWE,EVENTOUT", A7 PB4(NJTRST) (io) "PB4(NJTRST)/NJTRST,TIM3_CH1,SPI1_MISO,SPI3_MISO,USART1_CTS,UART5_RTS_DE,TSC_G2_IO1,LCD_SEG8,SAI1_MCLK_B,TIM17_BKIN,EVENTOUT/COMP2_INP", A8 PB3(JTDO-TRACESWO) (io) "PB3(JTDO-TRACESWO)/JTDO-TRACESWO,TIM2_CH2,SPI1_SCK,SPI3_SCK,USART1_RTS_DE,LCD_SEG7,SAI1_SCK_B,EVENTOUT/COMP2_INM", A9 PA15(JTDI) (io) "PA15(JTDI)/JTDI,TIM2_CH1,TIM2_ETR,SPI1_NSS,SPI3_NSS,UART4_RTS_DE,TSC_G3_IO1,LCD_SEG17,SAI2_FS_B,EVENTOUT", A10 PA14(JTCK-SWCLK) (io) "PA14(JTCK-SWCLK)/JTCK-SWCLK,EVENTOUT", A11 PA13(JTMS-SWDIO) (io) "PA13(JTMS-SWDIO)/JTMS-SWDIO,IR_OUT,OTG_FS_NOE,EVENTOUT", A12 PA12 (io) "PA12/TIM1_ETR,USART1_RTS_DE,CAN1_TX,OTG_FS_DP,EVENTOUT", B1 PE4 (io) "PE4/TRACED1,TIM3_CH2,DFSDM_DATIN3,TSC_G7_IO3,FMC_A20,SAI1_FS_A,EVENTOUT", B2 PE2 (io) "PE2/TRACECK,TIM3_ETR,TSC_G7_IO1,LCD_SEG38,FMC_A23,SAI1_MCLK_A,EVENTOUT", B3 PB9 (io) "PB9/IR_OUT,TIM4_CH4,I2C1_SDA,SPI2_NSS,DFSDM_CKIN6,CAN1_TX,LCD_COM3,SDMMC1_D5,SAI1_FS_A,TIM17_CH1,EVENTOUT", B4 PB7 (io) "PB7/LPTIM1_IN2,TIM4_CH2,TIM8_BKIN,I2C1_SDA,DFSDM_CKIN5,USART1_RX,UART4_CTS,TSC_G2_IO4,LCD_SEG21,FMC_NL,TIM8_BKIN_COMP1,TIM17_CH1N,EVENTOUT/COMP2_INM,PVD_IN", B5 PB6 (io) "PB6/LPTIM1_ETR,TIM4_CH1,TIM8_BKIN2,I2C1_SCL,DFSDM_DATIN5,USART1_TX,TSC_G2_IO3,TIM8_BKIN2_COMP2,SAI1_FS_B,TIM16_CH1N,EVENTOUT/COMP2_INP", B6 PD6 (io) "PD6/DFSDM_DATIN1,USART2_RX,FMC_NWAIT,SAI1_SD_A,EVENTOUT", B7 PD4 (io) "PD4/SPI2_MOSI,DFSDM_CKIN0,USART2_RTS_DE,FMC_NOE,EVENTOUT", B8 PD3 (io) "PD3/SPI2_MISO,DFSDM_DATIN0,USART2_CTS,FMC_CLK,EVENTOUT", B9 PD1 (io) "PD1/SPI2_SCK,DFSDM_CKIN7,CAN1_TX,FMC_D3,EVENTOUT", B10 PC12 (io) "PC12/SPI3_MOSI,USART3_CK,UART5_TX,TSC_G3_IO4,LCD_COM6/LCD_SEG30/LCD_SEG42,SDMMC1_CK,SAI2_SD_B,EVENTOUT", B11 PC10 (io) "PC10/SPI3_SCK,USART3_TX,UART4_TX,TSC_G3_IO2,LCD_COM4/LCD_SEG28/LCD_SEG40,SDMMC1_D2,SAI2_SCK_B,EVENTOUT", B12 PA11 (io) "PA11/TIM1_CH4,TIM1_BKIN2,USART1_CTS,CAN1_RX,OTG_FS_DM,TIM1_BKIN2_COMP1,EVENTOUT", C1 PC13 (io) "PC13/EVENTOUT/RTC_TAMP1/RTC_TS/RTC_OUT/WKUP2", C2 PE5 (io) "PE5/TRACED2,TIM3_CH3,DFSDM_CKIN3,TSC_G7_IO4,FMC_A21,SAI1_SCK_A,EVENTOUT", C3 PE0 (io) "PE0/TIM4_ETR,LCD_SEG36,FMC_NBL0,TIM16_CH1,EVENTOUT", C5 PB5 (io) "PB5/LPTIM1_IN1,TIM3_CH2,I2C1_SMBA,SPI1_MOSI,SPI3_MOSI,USART1_CK,UART5_CTS,TSC_G2_IO2,LCD_SEG9,COMP2_OUT,SAI1_SD_B,TIM16_BKIN,EVENTOUT", C8 PD2 (io) "PD2/TIM3_ETR,USART3_RTS_DE,UART5_RX,TSC_SYNC,LCD_COM7/LCD_SEG31/LCD_SEG43,SDMMC1_CMD,EVENTOUT", C9 PD0 (io) "PD0/SPI2_NSS,DFSDM_DATIN7,CAN1_RX,FMC_D2,EVENTOUT", C10 PC11 (io) "PC11/SPI3_MISO,USART3_RX,UART4_RX,TSC_G3_IO3,LCD_COM5/LCD_SEG29/LCD_SEG41,SDMMC1_D3,SAI2_MCLK_B,EVENTOUT", C12 PA10 (io) "PA10/TIM1_CH3,USART1_RX,OTG_FS_ID,LCD_COM2,TIM17_BKIN,EVENTOUT", D1 PC14-OSC32_IN(PC14) (io) "PC14-OSC32_IN(PC14)/EVENTOUT/OSC32_IN", D2 PE6 (io) "PE6/TRACED3,TIM3_CH4,FMC_A22,SAI1_SD_A,EVENTOUT/RTC_TAMP3/WKUP3", D10 PA9 (io) "PA9/TIM1_CH2,USART1_TX,LCD_COM1,TIM15_BKIN,EVENTOUT/OTG_FS_VBUS", D11 PA8 (io) "PA8/MCO,TIM1_CH1,USART1_CK,OTG_FS_SOF,LCD_COM0,LPTIM2_OUT,EVENTOUT", D12 PC9 (io) "PC9/TIM8_BKIN2,TIM3_CH4,TIM8_CH4,TSC_G4_IO4,OTG_FS_NOE,LCD_SEG27,SDMMC1_D1,SAI2_EXTCLK,TIM8_BKIN2_COMP1,EVENTOUT", E1 PC15-OSC32_OUT(PC15) (io) "PC15-OSC32_OUT(PC15)/EVENTOUT/OSC32_OUT", E10 PC8 (io) "PC8/TIM3_CH3,TIM8_CH3,TSC_G4_IO3,LCD_SEG26,SDMMC1_D0,EVENTOUT", E11 PC7 (io) "PC7/TIM3_CH2,TIM8_CH2,DFSDM_DATIN3,TSC_G4_IO2,LCD_SEG25,SDMMC1_D7,SAI2_MCLK_B,EVENTOUT", E12 PC6 (io) "PC6/TIM3_CH1,TIM8_CH1,DFSDM_CKIN3,TSC_G4_IO1,LCD_SEG24,SDMMC1_D6,SAI2_MCLK_A,EVENTOUT", F1 PH0-OSC_IN(PH0) (io) "PH0-OSC_IN(PH0)/EVENTOUT/OSC_IN", G1 PH1-OSC_OUT(PH1) (io) "PH1-OSC_OUT(PH1)/EVENTOUT/OSC_OUT", H1 PC0 (io) "PC0/LPTIM1_IN1,I2C3_SCL,DFSDM_DATIN4,LPUART1_RX,LCD_SEG18,LPTIM2_IN1,EVENTOUT/ADC123_IN1", H2 NRST (io), H3 PDR_ON (io) "NRST", H10 PD15 (io) "PD15/TIM4_CH4,LCD_SEG35,FMC_D1,EVENTOUT", H11 PD14 (io) "PD14/TIM4_CH3,LCD_SEG34,FMC_D0,EVENTOUT", H12 PD13 (io) "PD13/TIM4_CH2,TSC_G6_IO4,LCD_SEG33,FMC_A18,LPTIM2_OUT,EVENTOUT", J2 PC1 (io) "PC1/LPTIM1_OUT,I2C3_SDA,DFSDM_CKIN4,LPUART1_TX,LCD_SEG19,EVENTOUT/ADC123_IN2", J3 PC2 (io) "PC2/LPTIM1_IN2,SPI2_MISO,DFSDM_CKOUT,LCD_SEG20,EVENTOUT/ADC123_IN3", J10 PD12 (io) "PD12/TIM4_CH1,USART3_RTS_DE,TSC_G6_IO3,LCD_SEG32,FMC_A17,SAI2_FS_A,LPTIM2_IN1,EVENTOUT", J11 PD11 (io) "PD11/USART3_CTS,TSC_G6_IO2,LCD_SEG31,FMC_A16,SAI2_SD_A,LPTIM2_ETR,EVENTOUT", J12 PD10 (io) "PD10/USART3_CK,TSC_G6_IO1,LCD_SEG30,FMC_D15,SAI2_SCK_A,EVENTOUT", K2 PC3 (io) "PC3/LPTIM1_ETR,SPI2_MOSI,LCD_VLCD,SAI1_SD_A,LPTIM2_ETR,EVENTOUT/ADC123_IN4", K3 PA2 (io) "PA2/TIM2_CH3,TIM5_CH3,USART2_TX,LCD_SEG1,SAI2_EXTCLK,TIM15_CH1,EVENTOUT/ADC12_IN7,WKUP4/LSCO", K4 PA5 (io) "PA5/TIM2_CH1,TIM2_ETR,TIM8_CH1N,SPI1_SCK,LPTIM2_ETR,EVENTOUT/ADC12_IN10,DAC1_OUT2", K5 PC4 (io) "PC4/USART3_TX,LCD_SEG22,EVENTOUT/COMP1_INM,ADC12_IN13", K8 PD9 (io) "PD9/USART3_RX,LCD_SEG29,FMC_D14,SAI2_MCLK_A,EVENTOUT", K9 PB11 (io) "PB11/TIM2_CH4,I2C2_SDA,DFSDM_CKIN7,USART3_RX,LPUART1_TX,QUADSPI_NCS,LCD_SEG11,COMP2_OUT,EVENTOUT", K9 PD8 (io) "PD8/USART3_TX,LCD_SEG28,FMC_D13,EVENTOUT", K10 PB15 (io) "PB15/RTC_REFIN,TIM1_CH3N,TIM8_CH3N,SPI2_MOSI,DFSDM_CKIN2,TSC_G1_IO4,LCD_SEG15,SWPMI1_SUSPEND,SAI2_SD_A,TIM15_CH2,EVENTOUT", K11 PB14 (io) "PB14/TIM1_CH2N,TIM8_CH2N,I2C2_SDA,SPI2_MISO,DFSDM_DATIN2,USART3_RTS_DE,TSC_G1_IO3,LCD_SEG14,SWPMI1_RX,SAI2_MCLK_A,TIM15_CH1,EVENTOUT", K12 PB13 (io) "PB13/TIM1_CH1N,I2C2_SCL,SPI2_SCK,DFSDM_CKIN1,USART3_CTS,LPUART1_CTS,TSC_G1_IO2,LCD_SEG13,SWPMI1_TX,SAI2_SCK_A,TIM15_CH1N,EVENTOUT", L2 PA0 (io) "PA0/TIM2_CH1,TIM5_CH1,TIM8_ETR,USART2_CTS,UART4_TX,SAI1_EXTCLK,TIM2_ETR,EVENTOUT/OPAMP1_VINP,ADC12_IN5,RTC_TAMP2/WKUP1", L3 PA3 (io) "PA3/TIM2_CH4,TIM5_CH4,USART2_RX,LCD_SEG2,TIM15_CH2,EVENTOUT/OPAMP1_VOUT,ADC12_IN8", L4 PA6 (io) "PA6/TIM1_BKIN,TIM3_CH1,TIM8_BKIN,SPI1_MISO,USART3_CTS,QUADSPI_BK1_IO3,LCD_SEG3,TIM1_BKIN_COMP2,TIM8_BKIN_COMP2,TIM16_CH1,EVENTOUT/OPAMP2_VINP,ADC12_IN11", L5 PC5 (io) "PC5/USART3_RX,LCD_SEG23,EVENTOUT/COMP1_INP,ADC12_IN14,WKUP5", L6 PB2 (io) "PB2/RTC_OUT,LPTIM1_OUT,I2C3_SMBA,DFSDM_CKIN0,EVENTOUT/COMP1_INP", L7 PE8 (io) "PE8/TIM1_CH1N,DFSDM_CKIN2,FMC_D5,SAI1_SCK_B,EVENTOUT", L8 PE10 (io) "PE10/TIM1_CH2N,DFSDM_DATIN4,TSC_G5_IO1,QUADSPI_CLK,FMC_D7,SAI1_MCLK_B,EVENTOUT", L9 PE12 (io) "PE12/TIM1_CH3N,SPI1_NSS,DFSDM_DATIN5,TSC_G5_IO3,QUADSPI_BK1_IO0,FMC_D9,EVENTOUT", L10 PB10 (io) "PB10/TIM2_CH3,I2C2_SCL,SPI2_SCK,DFSDM_DATIN7,USART3_TX,LPUART1_RX,QUADSPI_CLK,LCD_SEG10,COMP1_OUT,SAI1_SCK_A,EVENTOUT", L12 PB12 (io) "PB12/TIM1_BKIN,TIM1_BKIN_COMP2,I2C2_SMBA,SPI2_NSS,DFSDM_DATIN1,USART3_CK,LPUART1_RTS_DE,TSC_G1_IO1,LCD_SEG12,SWPMI1_IO,SAI2_FS_A,TIM15_BKIN,EVENTOUT", M2 PA1 (io) "PA1/TIM2_CH2,TIM5_CH2,USART2_RTS_DE,UART4_RX,LCD_SEG0,TIM15_CH1N,EVENTOUT/OPAMP1_VINM,ADC12_IN6", M3 PA4 (io) "PA4/SPI1_NSS,SPI3_NSS,USART2_CK,SAI1_FS_B,LPTIM2_OUT,EVENTOUT/ADC12_IN9,DAC1_OUT1", M4 PA7 (io) "PA7/TIM1_CH1N,TIM3_CH2,TIM8_CH1N,SPI1_MOSI,QUADSPI_BK1_IO2,LCD_SEG4,TIM17_CH1,EVENTOUT/OPAMP2_VINM,ADC12_IN12", M5 PB0 (io) "PB0/TIM1_CH2N,TIM3_CH3,TIM8_CH2N,USART3_CK,QUADSPI_BK1_IO1,LCD_SEG5,COMP1_OUT,EVENTOUT/OPAMP2_VOUT,ADC12_IN15", M6 PB1 (io) "PB1/TIM1_CH3N,TIM3_CH4,TIM8_CH3N,DFSDM_DATIN0,USART3_RTS_DE,QUADSPI_BK1_IO0,LCD_SEG6,LPTIM2_IN1,EVENTOUT/COMP1_INM,ADC12_IN16", M7 PE7 (io) "PE7/TIM1_ETR,DFSDM_DATIN2,FMC_D4,SAI1_SD_B,EVENTOUT", M8 PE9 (io) "PE9/TIM1_CH1,DFSDM_CKOUT,FMC_D6,SAI1_FS_B,EVENTOUT", M9 PE11 (io) "PE11/TIM1_CH2,DFSDM_CKIN4,TSC_G5_IO2,QUADSPI_NCS,FMC_D8,EVENTOUT", M10 PE13 (io) "PE13/TIM1_CH3,SPI1_SCK,DFSDM_CKIN5,TSC_G5_IO4,QUADSPI_BK1_IO1,FMC_D10,EVENTOUT", M11 PE14 (io) "PE14/TIM1_CH4,TIM1_BKIN2,TIM1_BKIN2_COMP2,SPI1_MISO,QUADSPI_BK1_IO2,FMC_D11,EVENTOUT", M12 PE15 (io) "PE15/TIM1_BKIN,TIM1_BKIN_COMP1,SPI1_MOSI,QUADSPI_BK1_IO3,FMC_D12,EVENTOUT"
part B pins: C4 VDD (power), C11 VCAP_2 (power) "VDD", D3 VSS (power), E2 VBAT (power), E3 BYPASS_REG (power) "VSS", F2 VSS (power), F11 VSS (power), F12 VSS (power), G2 VDD (power), G11 VDD (power), G12 VDD (power), J1 VSSA (power), K1 VREF- (power), L1 VREF+ (power) "VREF+/VREFBUF_OUT", L11 VCAP_1 (power) "VDD", M1 VDDA (power)

## SYMBOL_R&M
designator 1?, comment Reichle & De-Massari Logo  (no BOM)
Replaceable: no; Footprint/Package: 2.54mm
footprint SYMBOL_R&M (Reichle & De-Massari printing)
text: R&M Logo

## TBU-CA065-200-WH
designator TVS?, comment Surge Suppressor  Manufacturer PartNr: TBU-CA065-200-WH
Surge Suppressors Bi-directional TBU; Manufacturer: Bourns; Replaceable: no; ComponentLink1Description: mouser; ComponentLink1URL: https://www.mouser.ch/ProductDetail/Bourns/TBU-CA065-200-WH?qs=%2fha2pyFaduj95%252bPp9esJZaeqLLOAsTrtt%2fj9VQKE6ynXA%2fELw5Iilg%3d%3d; Footprint/Package: TBU-CA_3_R; Supplier 1: Farnell; Supplier 2: Mouser; Supplier 3: Digi-Key; Supplier Part Number 1: 1833393RL; Supplier Part Number 2: 652-TBU-CA065-200-WH; Supplier Part Number 3: TBU-CA065-200-WHDKR-ND
footprint Bourns_TBU-CA_3_R
pins: 1, 2 NU, 3

## TEST_MATE_TYPE_2
designator TM?, comment <b>TestMate Type 2 UUT footprint  (no BOM)
footprint TEST_MATE_TYPE_2
pins: 1 BOARD_DETECT, 2 ANA_IN201, 3 ANA_IN202, 4 RS485_201_A, 5 RS485_201_B, 6 CAN_201_L, 7 CAN_201_H, 8 I2C_201_SDA, 9 I2C_201_SCL, 10 DIG_IN201, 11 DIG_IN202, 12 DIG_IN203, 13 DIG_IN204, 14 SERIAL_VCC, 15 DIG_OUT201.1, 16 DIG_OUT201.2, 17 DIG_OUT201.3, 18 DIG_OUT201.4, 19 SERIAL_201_TX, 20 SERIAL_201_RX, 21 SUPPLY_201, 22 GND

## TISP4240M3BJR-S
designator D?, comment Voltage Protector  Manufacturer PartNr: TISP4240M3BJR-S
BIDIRECTIONAL THYRISTOR OVERVOLTAGE PROTECTORS; Manufacturer: Bourns; Replaceable: no; ComponentLink1Description: mouser; ComponentLink1URL: https://www.mouser.ch/ProductDetail/Bourns/TISP4240M3BJR-S?qs=%2fha2pyFaduglna2n%2fOgH%252b48ee%2fFNqAJLhwc%252b2qCt1PQNpX32fNU97g%3d%3d; Footprint/Package: SMB; Supplier 1: Digi-Key; Supplier 2: Mouser; Supplier Part Number 1: TISP4240M3BJR-SCT-ND; Supplier Part Number 2: 652-TISP4240M3BJR-S
footprint SMB_TISP4240M3BJR-S
pins: 1 A, 2 K

## TPS2057A
designator U?, comment Current Limiter  Manufacturer PartNr: TPS2057ADG4
Power Switch ICs Power Distribution 0.345A 2.7-5.5V Trpl Hi-Side MOSFET; Manufacturer: Texas Instruments; Replaceable: no; ComponentLink1Description: mouser; ComponentLink1URL: https://www.mouser.ch/ProductDetail/Texas-Instruments/TPS2057ADG4?qs=sGAEpiMZZMuCmTIBzycWfArOWgm%252bsETdOzNaBgsYWnc%3d; Footprint/Package: SOIC-16; Supplier 1: Mouser; Supplier 2: Digi-Key; Supplier Part Number 1: 595-TPS2057ADG4; Supplier Part Number 2: TPS2057ADG4-ND
footprint TPS2057ADG4_SOIC-16 (SOIC, 16-Leads, Body 10.00x4.00mm, Pitch 1.27mm, IPC Medium Density)
pins: 1 GNDA, 2 IN1 (power), 3 EN1 (in), 4 EN2 (in), 5 GNDB, 6 IN2 (power), 7 EN3 (in), 8 NC, 9 NC, 10 NC, 11 OUT3 (out), 12 OC3 (out), 13 OC2 (out), 14 OUT2 (out), 15 OUT1 (out), 16 OC1 (out)

## TPS54260DGQR
designator U?, comment Switching Voltage Regulator  Manufacturer PartNr: TPS54260DGQR
Switching Voltage Regulators 3.5-60V 2.5A 2.5MHz Step Down Converter; Manufacturer: Texas Instruments; Replaceable: no; ComponentLink1Description: mouser; ComponentLink1URL: https://www.mouser.ch/ProductDetail/Texas-Instruments/TPS54260DGQR?qs=sGAEpiMZZMvAX9OfPh%252b2NVVXPcZYNNxJ6f9D0IR5ghU%3d; Footprint/Package: S-PDSO-G10
footprint TPS54260_S-PDSO-G10 (PSO Package  10-Pin)
pins: 1 BOOT, 2 VIN (power), 3 EN (in), 4 SS/TR (in), 5 RT/CLK (in), 6 PWRGD (out), 7 VSNS (in), 8 COMP (out), 9 GND, 10 PH (out)